# Altium footprint library CAS120A1.PcbLib: 1 footprints
Each footprint in its own frame and in the unit in brackets; x right, y up, seen from the top. Pads: shape width x height; smd on the part's side, far side on the other; paste and mask are expansions set on the pad; w line width, h text height; cw(c..) or ccw(c..) is an arc to the next point about the centre after c.
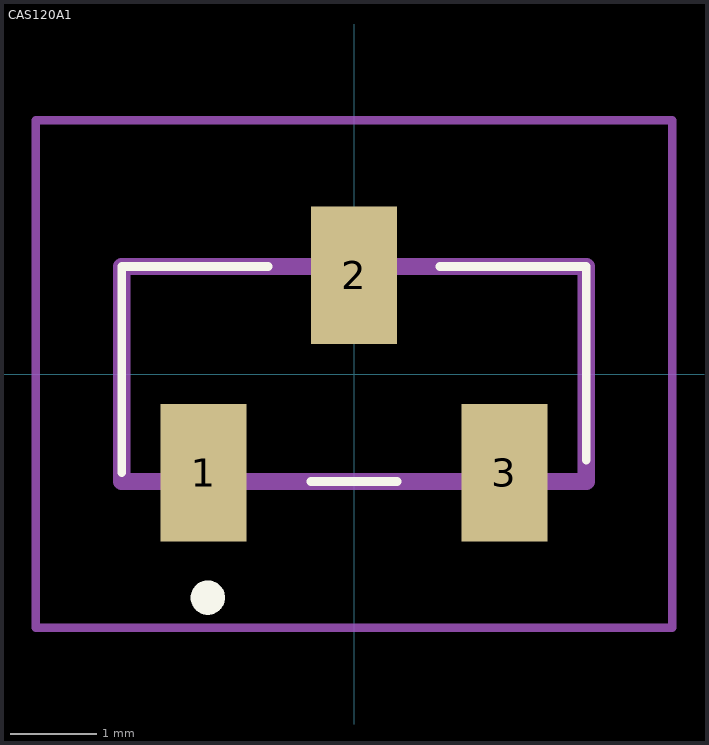
[diagram p0: the footprint, top view; thin cyan lines are the x and y axes]

## CAS120A1 [mm]
pads (3):
  rect 1x1.6 smd: 1(-1.75,-1.15) 2(0,1.15) 3(1.75,-1.15)
Top Overlay:
  lines w0.1: -1,1.25 -2.7,1.25 -2.7,-1.15 ; -0.5,-1.25 0.5,-1.25 ; 1,1.25 2.7,1.25 2.7,-1 ; -2.7,-1.15 -2.7,-1.15
  lines w0.2: -1.7,-2.7 cw(c-1.7,-2.6) -1.7,-2.5 ; -1.7,-2.7 -1.7,-2.7 ; -1.7,-2.7 ccw(c-1.7,-2.6) -1.7,-2.5 ; -1.7,-2.5 -1.7,-2.5
Mechanical 15:
  lines w0.2: -2.7,-1.25 2.7,-1.25 2.7,1.25 -2.7,1.25 -2.7,-1.25
Mechanical 20:
  lines w0.1: -3.7,-2.95 3.7,-2.95 3.7,2.95 -3.7,2.95 -3.7,-2.95